# Altium footprint library BGA (1.0mm Pitch, Square1).PcbLib: 28 footprints (part 2 of 2)
Each footprint in its own frame and in the unit in brackets; x right, y up, seen from the top. Pads: shape width x height; smd on the part's side, far side on the other; paste and mask are expansions set on the pad; w line width, h text height; cw(c..) or ccw(c..) is an arc to the next point about the centre after c.
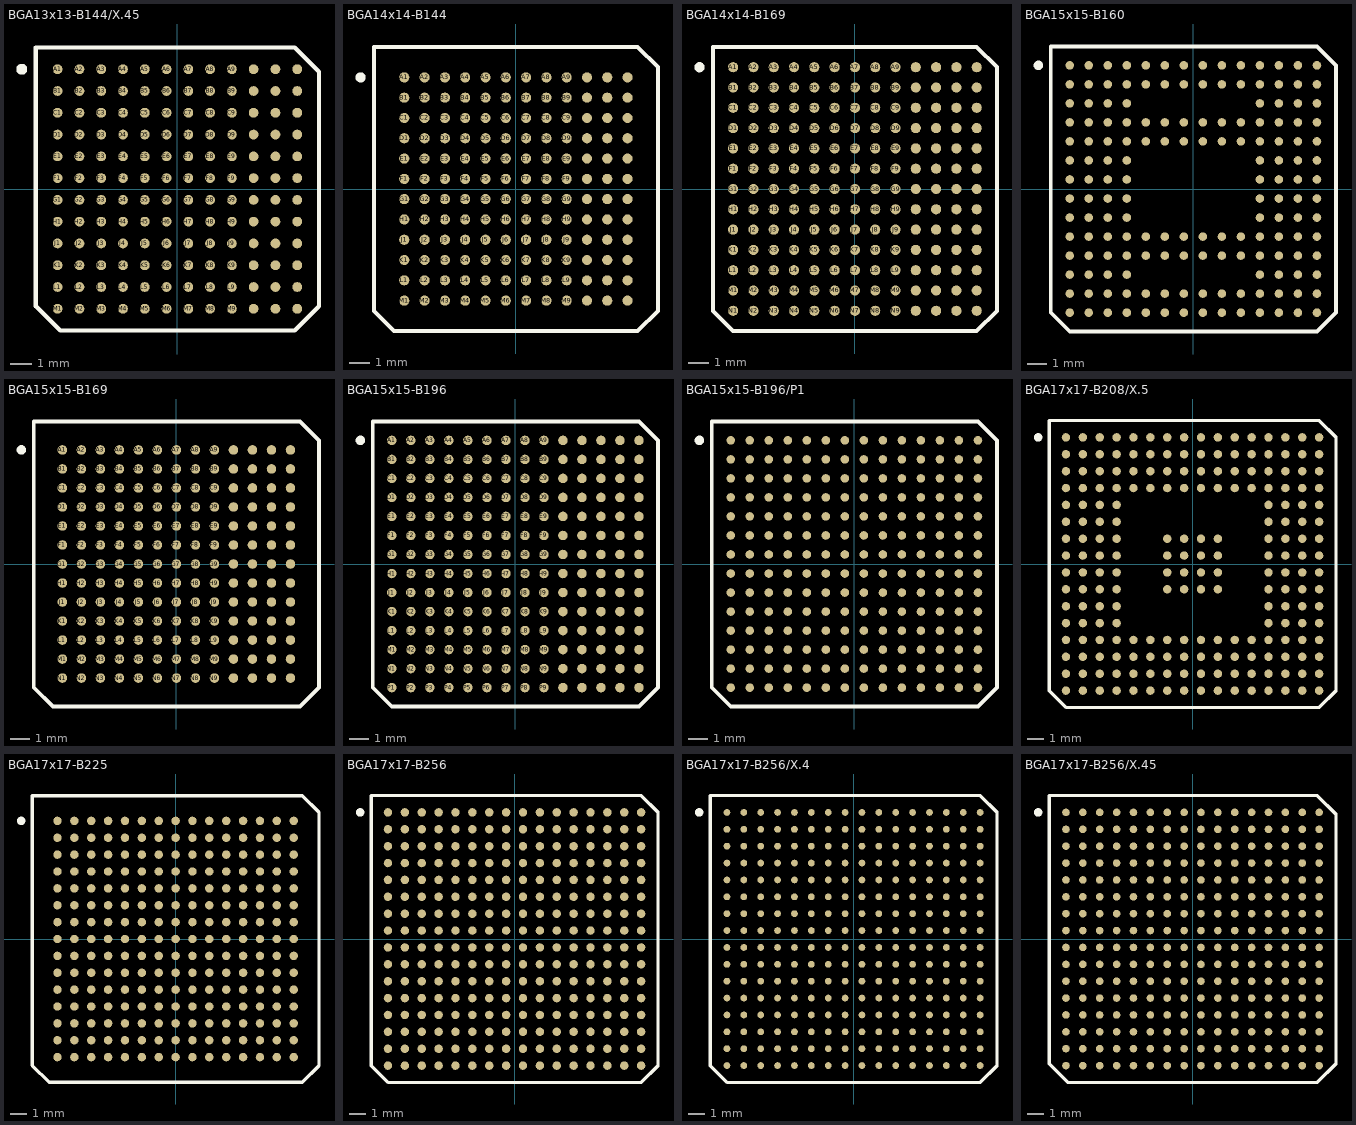
[diagram p1: the footprints below, top view; thin cyan lines are the x and y axes]

## BGA13x13-B144/X.45 [mm] "144-Pin Fine-Pitch Plastic Ball Grid Array (FG)"
height 1.55
pads (144):
  round 0.45 smd: A1(-5.5,5.5) A2(-4.5,5.5) A3(-3.5,5.5) A4(-2.5,5.5) A5(-1.5,5.5) A6(-0.5,5.5) A7(0.5,5.5) A8(1.5,5.5) A9(2.5,5.5) A10(3.5,5.5) A11(4.5,5.5) A12(5.5,5.5) B1(-5.5,4.5) B2(-4.5,4.5) B3(-3.5,4.5) B4(-2.5,4.5) B5(-1.5,4.5) B6(-0.5,4.5) B7(0.5,4.5) B8(1.5,4.5) B9(2.5,4.5) B10(3.5,4.5) B11(4.5,4.5) B12(5.5,4.5) C1(-5.5,3.5) C2(-4.5,3.5) C3(-3.5,3.5) C4(-2.5,3.5) C5(-1.5,3.5) C6(-0.5,3.5) C7(0.5,3.5) C8(1.5,3.5) C9(2.5,3.5) C10(3.5,3.5) C11(4.5,3.5) C12(5.5,3.5) D1(-5.5,2.5) D2(-4.5,2.5) D3(-3.5,2.5) D4(-2.5,2.5) D5(-1.5,2.5) D6(-0.5,2.5) D7(0.5,2.5) D8(1.5,2.5) D9(2.5,2.5) D10(3.5,2.5) D11(4.5,2.5) D12(5.5,2.5) E1(-5.5,1.5) E2(-4.5,1.5) E3(-3.5,1.5) E4(-2.5,1.5) E5(-1.5,1.5) E6(-0.5,1.5) E7(0.5,1.5) E8(1.5,1.5) E9(2.5,1.5) E10(3.5,1.5) E11(4.5,1.5) E12(5.5,1.5) F1(-5.5,0.5) F2(-4.5,0.5) F3(-3.5,0.5) F4(-2.5,0.5) F5(-1.5,0.5) F6(-0.5,0.5) F7(0.5,0.5) F8(1.5,0.5) F9(2.5,0.5) F10(3.5,0.5) F11(4.5,0.5) F12(5.5,0.5) G1(-5.5,-0.5) G2(-4.5,-0.5) G3(-3.5,-0.5) G4(-2.5,-0.5) G5(-1.5,-0.5) G6(-0.5,-0.5) G7(0.5,-0.5) G8(1.5,-0.5) G9(2.5,-0.5) G10(3.5,-0.5) G11(4.5,-0.5) G12(5.5,-0.5) H1(-5.5,-1.5) H2(-4.5,-1.5) H3(-3.5,-1.5) H4(-2.5,-1.5) H5(-1.5,-1.5) H6(-0.5,-1.5) H7(0.5,-1.5) H8(1.5,-1.5) H9(2.5,-1.5) H10(3.5,-1.5) H11(4.5,-1.5) H12(5.5,-1.5) J1(-5.5,-2.5) J2(-4.5,-2.5) J3(-3.5,-2.5) J4(-2.5,-2.5) J5(-1.5,-2.5) J6(-0.5,-2.5) J7(0.5,-2.5) J8(1.5,-2.5) J9(2.5,-2.5) J10(3.5,-2.5) J11(4.5,-2.5) J12(5.5,-2.5) K1(-5.5,-3.5) K2(-4.5,-3.5) K3(-3.5,-3.5) K4(-2.5,-3.5) K5(-1.5,-3.5) K6(-0.5,-3.5) K7(0.5,-3.5) K8(1.5,-3.5) K9(2.5,-3.5) K10(3.5,-3.5) K11(4.5,-3.5) K12(5.5,-3.5) L1(-5.5,-4.5) L2(-4.5,-4.5) L3(-3.5,-4.5) L4(-2.5,-4.5) L5(-1.5,-4.5) L6(-0.5,-4.5) L7(0.5,-4.5) L8(1.5,-4.5) L9(2.5,-4.5) L10(3.5,-4.5) L11(4.5,-4.5) L12(5.5,-4.5) M1(-5.5,-5.5) M2(-4.5,-5.5) M3(-3.5,-5.5) M4(-2.5,-5.5) M5(-1.5,-5.5) M6(-0.5,-5.5) M7(0.5,-5.5) M8(1.5,-5.5) M9(2.5,-5.5) M10(3.5,-5.5) M11(4.5,-5.5) M12(5.5,-5.5)
Top Overlay:
  circle w0.25: c-7.15,5.5 r0.125
  lines w0.2: -6.5,-5.384 -5.384,-6.5 5.384,-6.5 6.5,-5.384 6.5,5.384 5.384,6.5 -6.5,6.5 -6.5,-5.384

## BGA14x14-B144 [mm] "BGA; 144 Balls; Body 14 x 14 mm; Pitch 1 mm"
height 3.5
pads (144):
  round 0.5 smd: A1(-5.5,5.5) A2(-4.5,5.5) A3(-3.5,5.5) A4(-2.5,5.5) A5(-1.5,5.5) A6(-0.5,5.5) A7(0.5,5.5) A8(1.5,5.5) A9(2.5,5.5) A10(3.5,5.5) A11(4.5,5.5) A12(5.5,5.5) B1(-5.5,4.5) B2(-4.5,4.5) B3(-3.5,4.5) B4(-2.5,4.5) B5(-1.5,4.5) B6(-0.5,4.5) B7(0.5,4.5) B8(1.5,4.5) B9(2.5,4.5) B10(3.5,4.5) B11(4.5,4.5) B12(5.5,4.5) C1(-5.5,3.5) C2(-4.5,3.5) C3(-3.5,3.5) C4(-2.5,3.5) C5(-1.5,3.5) C6(-0.5,3.5) C7(0.5,3.5) C8(1.5,3.5) C9(2.5,3.5) C10(3.5,3.5) C11(4.5,3.5) C12(5.5,3.5) D1(-5.5,2.5) D2(-4.5,2.5) D3(-3.5,2.5) D4(-2.5,2.5) D5(-1.5,2.5) D6(-0.5,2.5) D7(0.5,2.5) D8(1.5,2.5) D9(2.5,2.5) D10(3.5,2.5) D11(4.5,2.5) D12(5.5,2.5) E1(-5.5,1.5) E2(-4.5,1.5) E3(-3.5,1.5) E4(-2.5,1.5) E5(-1.5,1.5) E6(-0.5,1.5) E7(0.5,1.5) E8(1.5,1.5) E9(2.5,1.5) E10(3.5,1.5) E11(4.5,1.5) E12(5.5,1.5) F1(-5.5,0.5) F2(-4.5,0.5) F3(-3.5,0.5) F4(-2.5,0.5) F5(-1.5,0.5) F6(-0.5,0.5) F7(0.5,0.5) F8(1.5,0.5) F9(2.5,0.5) F10(3.5,0.5) F11(4.5,0.5) F12(5.5,0.5) G1(-5.5,-0.5) G2(-4.5,-0.5) G3(-3.5,-0.5) G4(-2.5,-0.5) G5(-1.5,-0.5) G6(-0.5,-0.5) G7(0.5,-0.5) G8(1.5,-0.5) G9(2.5,-0.5) G10(3.5,-0.5) G11(4.5,-0.5) G12(5.5,-0.5) H1(-5.5,-1.5) H2(-4.5,-1.5) H3(-3.5,-1.5) H4(-2.5,-1.5) H5(-1.5,-1.5) H6(-0.5,-1.5) H7(0.5,-1.5) H8(1.5,-1.5) H9(2.5,-1.5) H10(3.5,-1.5) H11(4.5,-1.5) H12(5.5,-1.5) J1(-5.5,-2.5) J2(-4.5,-2.5) J3(-3.5,-2.5) J4(-2.5,-2.5) J5(-1.5,-2.5) J6(-0.5,-2.5) J7(0.5,-2.5) J8(1.5,-2.5) J9(2.5,-2.5) J10(3.5,-2.5) J11(4.5,-2.5) J12(5.5,-2.5) K1(-5.5,-3.5) K2(-4.5,-3.5) K3(-3.5,-3.5) K4(-2.5,-3.5) K5(-1.5,-3.5) K6(-0.5,-3.5) K7(0.5,-3.5) K8(1.5,-3.5) K9(2.5,-3.5) K10(3.5,-3.5) K11(4.5,-3.5) K12(5.5,-3.5) L1(-5.5,-4.5) L2(-4.5,-4.5) L3(-3.5,-4.5) L4(-2.5,-4.5) L5(-1.5,-4.5) L6(-0.5,-4.5) L7(0.5,-4.5) L8(1.5,-4.5) L9(2.5,-4.5) L10(3.5,-4.5) L11(4.5,-4.5) L12(5.5,-4.5) M1(-5.5,-5.5) M2(-4.5,-5.5) M3(-3.5,-5.5) M4(-2.5,-5.5) M5(-1.5,-5.5) M6(-0.5,-5.5) M7(0.5,-5.5) M8(1.5,-5.5) M9(2.5,-5.5) M10(3.5,-5.5) M11(4.5,-5.5) M12(5.5,-5.5)
Top Overlay:
  circle w0.25: c-7.655,5.5 r0.125
  lines w0.2: -7,-6 -6,-7 6,-7 7,-6 7,6 6,7 -7,7 -7,-6

## BGA14x14-B169 [mm] "BGA; 169 Balls; Body 14 x 14 mm; Pitch 1 mm"
height 3.5
pads (169):
  round 0.5 smd: A1(-6,6) A2(-5,6) A3(-4,6) A4(-3,6) A5(-2,6) A6(-1,6) A7(0,6) A8(1,6) A9(2,6) A10(3,6) A11(4,6) A12(5,6) A13(6,6) B1(-6,5) B2(-5,5) B3(-4,5) B4(-3,5) B5(-2,5) B6(-1,5) B7(0,5) B8(1,5) B9(2,5) B10(3,5) B11(4,5) B12(5,5) B13(6,5) C1(-6,4) C2(-5,4) C3(-4,4) C4(-3,4) C5(-2,4) C6(-1,4) C7(0,4) C8(1,4) C9(2,4) C10(3,4) C11(4,4) C12(5,4) C13(6,4) D1(-6,3) D2(-5,3) D3(-4,3) D4(-3,3) D5(-2,3) D6(-1,3) D7(0,3) D8(1,3) D9(2,3) D10(3,3) D11(4,3) D12(5,3) D13(6,3) E1(-6,2) E2(-5,2) E3(-4,2) E4(-3,2) E5(-2,2) E6(-1,2) E7(0,2) E8(1,2) E9(2,2) E10(3,2) E11(4,2) E12(5,2) E13(6,2) F1(-6,1) F2(-5,1) F3(-4,1) F4(-3,1) F5(-2,1) F6(-1,1) F7(0,1) F8(1,1) F9(2,1) F10(3,1) F11(4,1) F12(5,1) F13(6,1) G1(-6,0) G2(-5,0) G3(-4,0) G4(-3,0) G5(-2,0) G6(-1,0) G7(0,0) G8(1,0) G9(2,0) G10(3,0) G11(4,0) G12(5,0) G13(6,0) H1(-6,-1) H2(-5,-1) H3(-4,-1) H4(-3,-1) H5(-2,-1) H6(-1,-1) H7(0,-1) H8(1,-1) H9(2,-1) H10(3,-1) H11(4,-1) H12(5,-1) H13(6,-1) J1(-6,-2) J2(-5,-2) J3(-4,-2) J4(-3,-2) J5(-2,-2) J6(-1,-2) J7(0,-2) J8(1,-2) J9(2,-2) J10(3,-2) J11(4,-2) J12(5,-2) J13(6,-2) K1(-6,-3) K2(-5,-3) K3(-4,-3) K4(-3,-3) K5(-2,-3) K6(-1,-3) K7(0,-3) K8(1,-3) K9(2,-3) K10(3,-3) K11(4,-3) K12(5,-3) K13(6,-3) L1(-6,-4) L2(-5,-4) L3(-4,-4) L4(-3,-4) L5(-2,-4) L6(-1,-4) L7(0,-4) L8(1,-4) L9(2,-4) L10(3,-4) L11(4,-4) L12(5,-4) L13(6,-4) M1(-6,-5) M2(-5,-5) M3(-4,-5) M4(-3,-5) M5(-2,-5) M6(-1,-5) M7(0,-5) M8(1,-5) M9(2,-5) M10(3,-5) M11(4,-5) M12(5,-5) M13(6,-5) N1(-6,-6) N2(-5,-6) N3(-4,-6) N4(-3,-6) N5(-2,-6) N6(-1,-6) N7(0,-6) N8(1,-6) N9(2,-6) N10(3,-6) N11(4,-6) N12(5,-6) N13(6,-6)
Top Overlay:
  circle w0.25: c-7.655,6 r0.125
  lines w0.2: -7,-6 -7,7 6,7 7,6 7,-6 6,-7 -6,-7 -7,-6

## BGA15x15-B160 [mm] "MAP-BGA; 160 Balls; Body 15 x 15 mm; Pitch 1 mm"
height 1.75
pads (160):
  round 0.45 smd: A1(-6.5,6.5) A2(-5.5,6.5) A3(-4.5,6.5) A4(-3.5,6.5) A5(-2.5,6.5) A6(-1.5,6.5) A7(-0.5,6.5) A8(0.5,6.5) A9(1.5,6.5) A10(2.5,6.5) A11(3.5,6.5) A12(4.5,6.5) A13(5.5,6.5) A14(6.5,6.5) B1(-6.5,5.5) B2(-5.5,5.5) B3(-4.5,5.5) B4(-3.5,5.5) B5(-2.5,5.5) B6(-1.5,5.5) B7(-0.5,5.5) B8(0.5,5.5) B9(1.5,5.5) B10(2.5,5.5) B11(3.5,5.5) B12(4.5,5.5) B13(5.5,5.5) B14(6.5,5.5) C1(-6.5,4.5) C2(-5.5,4.5) C3(-4.5,4.5) C4(-3.5,4.5) C11(3.5,4.5) C12(4.5,4.5) C13(5.5,4.5) C14(6.5,4.5) D1(-6.5,3.5) D2(-5.5,3.5) D3(-4.5,3.5) D4(-3.5,3.5) D5(-2.5,3.5) D6(-1.5,3.5) D7(-0.5,3.5) D8(0.5,3.5) D9(1.5,3.5) D10(2.5,3.5) D11(3.5,3.5) D12(4.5,3.5) D13(5.5,3.5) D14(6.5,3.5) E1(-6.5,2.5) E2(-5.5,2.5) E3(-4.5,2.5) E4(-3.5,2.5) E5(-2.5,2.5) E6(-1.5,2.5) E7(-0.5,2.5) E8(0.5,2.5) E9(1.5,2.5) E10(2.5,2.5) E11(3.5,2.5) E12(4.5,2.5) E13(5.5,2.5) E14(6.5,2.5) F1(-6.5,1.5) F2(-5.5,1.5) F3(-4.5,1.5) F4(-3.5,1.5) F11(3.5,1.5) F12(4.5,1.5) F13(5.5,1.5) F14(6.5,1.5) G1(-6.5,0.5) G2(-5.5,0.5) G3(-4.5,0.5) G4(-3.5,0.5) G11(3.5,0.5) G12(4.5,0.5) G13(5.5,0.5) G14(6.5,0.5) H1(-6.5,-0.5) H2(-5.5,-0.5) H3(-4.5,-0.5) H4(-3.5,-0.5) H11(3.5,-0.5) H12(4.5,-0.5) H13(5.5,-0.5) H14(6.5,-0.5) J1(-6.5,-1.5) J2(-5.5,-1.5) J3(-4.5,-1.5) J4(-3.5,-1.5) J11(3.5,-1.5) J12(4.5,-1.5) J13(5.5,-1.5) J14(6.5,-1.5) K1(-6.5,-2.5) K2(-5.5,-2.5) K3(-4.5,-2.5) K4(-3.5,-2.5) K5(-2.5,-2.5) K6(-1.5,-2.5) K7(-0.5,-2.5) K8(0.5,-2.5) K9(1.5,-2.5) K10(2.5,-2.5) K11(3.5,-2.5) K12(4.5,-2.5) K13(5.5,-2.5) K14(6.5,-2.5) L1(-6.5,-3.5) L2(-5.5,-3.5) L3(-4.5,-3.5) L4(-3.5,-3.5) L5(-2.5,-3.5) L6(-1.5,-3.5) L7(-0.5,-3.5) L8(0.5,-3.5) L9(1.5,-3.5) L10(2.5,-3.5) L11(3.5,-3.5) L12(4.5,-3.5) L13(5.5,-3.5) L14(6.5,-3.5) M1(-6.5,-4.5) M2(-5.5,-4.5) M3(-4.5,-4.5) M4(-3.5,-4.5) M11(3.5,-4.5) M12(4.5,-4.5) M13(5.5,-4.5) M14(6.5,-4.5) N1(-6.5,-5.5) N2(-5.5,-5.5) N3(-4.5,-5.5) N4(-3.5,-5.5) N5(-2.5,-5.5) N6(-1.5,-5.5) N7(-0.5,-5.5) N8(0.5,-5.5) N9(1.5,-5.5) N10(2.5,-5.5) N11(3.5,-5.5) N12(4.5,-5.5) N13(5.5,-5.5) N14(6.5,-5.5) P1(-6.5,-6.5) P2(-5.5,-6.5) P3(-4.5,-6.5) P4(-3.5,-6.5) P5(-2.5,-6.5) P6(-1.5,-6.5) P7(-0.5,-6.5) P8(0.5,-6.5) P9(1.5,-6.5) P10(2.5,-6.5) P11(3.5,-6.5) P12(4.5,-6.5) P13(5.5,-6.5) P14(6.5,-6.5)
Top Overlay:
  circle w0.25: c-8.15,6.5 r0.125
  lines w0.2: -7.5,-6.5 -7.5,7.5 6.5,7.5 7.5,6.5 7.5,-6.5 6.5,-7.5 -6.5,-7.5 -7.5,-6.5

## BGA15x15-B169 [mm] "BGA; 169 Balls; Body 15 x 15 mm; Pitch 1 mm"
height 3.5
pads (169):
  round 0.5 smd: A1(-6,6) A2(-5,6) A3(-4,6) A4(-3,6) A5(-2,6) A6(-1,6) A7(0,6) A8(1,6) A9(2,6) A10(3,6) A11(4,6) A12(5,6) A13(6,6) B1(-6,5) B2(-5,5) B3(-4,5) B4(-3,5) B5(-2,5) B6(-1,5) B7(0,5) B8(1,5) B9(2,5) B10(3,5) B11(4,5) B12(5,5) B13(6,5) C1(-6,4) C2(-5,4) C3(-4,4) C4(-3,4) C5(-2,4) C6(-1,4) C7(0,4) C8(1,4) C9(2,4) C10(3,4) C11(4,4) C12(5,4) C13(6,4) D1(-6,3) D2(-5,3) D3(-4,3) D4(-3,3) D5(-2,3) D6(-1,3) D7(0,3) D8(1,3) D9(2,3) D10(3,3) D11(4,3) D12(5,3) D13(6,3) E1(-6,2) E2(-5,2) E3(-4,2) E4(-3,2) E5(-2,2) E6(-1,2) E7(0,2) E8(1,2) E9(2,2) E10(3,2) E11(4,2) E12(5,2) E13(6,2) F1(-6,1) F2(-5,1) F3(-4,1) F4(-3,1) F5(-2,1) F6(-1,1) F7(0,1) F8(1,1) F9(2,1) F10(3,1) F11(4,1) F12(5,1) F13(6,1) G1(-6,0) G2(-5,0) G3(-4,0) G4(-3,0) G5(-2,0) G6(-1,0) G7(0,0) G8(1,0) G9(2,0) G10(3,0) G11(4,0) G12(5,0) G13(6,0) H1(-6,-1) H2(-5,-1) H3(-4,-1) H4(-3,-1) H5(-2,-1) H6(-1,-1) H7(0,-1) H8(1,-1) H9(2,-1) H10(3,-1) H11(4,-1) H12(5,-1) H13(6,-1) J1(-6,-2) J2(-5,-2) J3(-4,-2) J4(-3,-2) J5(-2,-2) J6(-1,-2) J7(0,-2) J8(1,-2) J9(2,-2) J10(3,-2) J11(4,-2) J12(5,-2) J13(6,-2) K1(-6,-3) K2(-5,-3) K3(-4,-3) K4(-3,-3) K5(-2,-3) K6(-1,-3) K7(0,-3) K8(1,-3) K9(2,-3) K10(3,-3) K11(4,-3) K12(5,-3) K13(6,-3) L1(-6,-4) L2(-5,-4) L3(-4,-4) L4(-3,-4) L5(-2,-4) L6(-1,-4) L7(0,-4) L8(1,-4) L9(2,-4) L10(3,-4) L11(4,-4) L12(5,-4) L13(6,-4) M1(-6,-5) M2(-5,-5) M3(-4,-5) M4(-3,-5) M5(-2,-5) M6(-1,-5) M7(0,-5) M8(1,-5) M9(2,-5) M10(3,-5) M11(4,-5) M12(5,-5) M13(6,-5) N1(-6,-6) N2(-5,-6) N3(-4,-6) N4(-3,-6) N5(-2,-6) N6(-1,-6) N7(0,-6) N8(1,-6) N9(2,-6) N10(3,-6) N11(4,-6) N12(5,-6) N13(6,-6)
Top Overlay:
  circle w0.25: c-8.155,6 r0.125
  lines w0.2: -7.5,-6.5 -7.5,7.5 6.5,7.5 7.5,6.5 7.5,-6.5 6.5,-7.5 -6.5,-7.5 -7.5,-6.5

## BGA15x15-B196 [mm] "BGA; 196 Balls; Body 15 x 15 mm; Pitch 1 mm"
height 1.9
pads (196):
  round 0.5 smd: A1(-6.5,6.5) A2(-5.5,6.5) A3(-4.5,6.5) A4(-3.5,6.5) A5(-2.5,6.5) A6(-1.5,6.5) A7(-0.5,6.5) A8(0.5,6.5) A9(1.5,6.5) A10(2.5,6.5) A11(3.5,6.5) A12(4.5,6.5) A13(5.5,6.5) A14(6.5,6.5) B1(-6.5,5.5) B2(-5.5,5.5) B3(-4.5,5.5) B4(-3.5,5.5) B5(-2.5,5.5) B6(-1.5,5.5) B7(-0.5,5.5) B8(0.5,5.5) B9(1.5,5.5) B10(2.5,5.5) B11(3.5,5.5) B12(4.5,5.5) B13(5.5,5.5) B14(6.5,5.5) C1(-6.5,4.5) C2(-5.5,4.5) C3(-4.5,4.5) C4(-3.5,4.5) C5(-2.5,4.5) C6(-1.5,4.5) C7(-0.5,4.5) C8(0.5,4.5) C9(1.5,4.5) C10(2.5,4.5) C11(3.5,4.5) C12(4.5,4.5) C13(5.5,4.5) C14(6.5,4.5) D1(-6.5,3.5) D2(-5.5,3.5) D3(-4.5,3.5) D4(-3.5,3.5) D5(-2.5,3.5) D6(-1.5,3.5) D7(-0.5,3.5) D8(0.5,3.5) D9(1.5,3.5) D10(2.5,3.5) D11(3.5,3.5) D12(4.5,3.5) D13(5.5,3.5) D14(6.5,3.5) E1(-6.5,2.5) E2(-5.5,2.5) E3(-4.5,2.5) E4(-3.5,2.5) E5(-2.5,2.5) E6(-1.5,2.5) E7(-0.5,2.5) E8(0.5,2.5) E9(1.5,2.5) E10(2.5,2.5) E11(3.5,2.5) E12(4.5,2.5) E13(5.5,2.5) E14(6.5,2.5) F1(-6.5,1.5) F2(-5.5,1.5) F3(-4.5,1.5) F4(-3.5,1.5) F5(-2.5,1.5) F6(-1.5,1.5) F7(-0.5,1.5) F8(0.5,1.5) F9(1.5,1.5) F10(2.5,1.5) F11(3.5,1.5) F12(4.5,1.5) F13(5.5,1.5) F14(6.5,1.5) G1(-6.5,0.5) G2(-5.5,0.5) G3(-4.5,0.5) G4(-3.5,0.5) G5(-2.5,0.5) G6(-1.5,0.5) G7(-0.5,0.5) G8(0.5,0.5) G9(1.5,0.5) G10(2.5,0.5) G11(3.5,0.5) G12(4.5,0.5) G13(5.5,0.5) G14(6.5,0.5) H1(-6.5,-0.5) H2(-5.5,-0.5) H3(-4.5,-0.5) H4(-3.5,-0.5) H5(-2.5,-0.5) H6(-1.5,-0.5) H7(-0.5,-0.5) H8(0.5,-0.5) H9(1.5,-0.5) H10(2.5,-0.5) H11(3.5,-0.5) H12(4.5,-0.5) H13(5.5,-0.5) H14(6.5,-0.5) J1(-6.5,-1.5) J2(-5.5,-1.5) J3(-4.5,-1.5) J4(-3.5,-1.5) J5(-2.5,-1.5) J6(-1.5,-1.5) J7(-0.5,-1.5) J8(0.5,-1.5) J9(1.5,-1.5) J10(2.5,-1.5) J11(3.5,-1.5) J12(4.5,-1.5) J13(5.5,-1.5) J14(6.5,-1.5) K1(-6.5,-2.5) K2(-5.5,-2.5) K3(-4.5,-2.5) K4(-3.5,-2.5) K5(-2.5,-2.5) K6(-1.5,-2.5) K7(-0.5,-2.5) K8(0.5,-2.5) K9(1.5,-2.5) K10(2.5,-2.5) K11(3.5,-2.5) K12(4.5,-2.5) K13(5.5,-2.5) K14(6.5,-2.5) L1(-6.5,-3.5) L2(-5.5,-3.5) L3(-4.5,-3.5) L4(-3.5,-3.5) L5(-2.5,-3.5) L6(-1.5,-3.5) L7(-0.5,-3.5) L8(0.5,-3.5) L9(1.5,-3.5) L10(2.5,-3.5) L11(3.5,-3.5) L12(4.5,-3.5) L13(5.5,-3.5) L14(6.5,-3.5) M1(-6.5,-4.5) M2(-5.5,-4.5) M3(-4.5,-4.5) M4(-3.5,-4.5) M5(-2.5,-4.5) M6(-1.5,-4.5) M7(-0.5,-4.5) M8(0.5,-4.5) M9(1.5,-4.5) M10(2.5,-4.5) M11(3.5,-4.5) M12(4.5,-4.5) M13(5.5,-4.5) M14(6.5,-4.5) N1(-6.5,-5.5) N2(-5.5,-5.5) N3(-4.5,-5.5) N4(-3.5,-5.5) N5(-2.5,-5.5) N6(-1.5,-5.5) N7(-0.5,-5.5) N8(0.5,-5.5) N9(1.5,-5.5) N10(2.5,-5.5) N11(3.5,-5.5) N12(4.5,-5.5) N13(5.5,-5.5) N14(6.5,-5.5) P1(-6.5,-6.5) P2(-5.5,-6.5) P3(-4.5,-6.5) P4(-3.5,-6.5) P5(-2.5,-6.5) P6(-1.5,-6.5) P7(-0.5,-6.5) P8(0.5,-6.5) P9(1.5,-6.5) P10(2.5,-6.5) P11(3.5,-6.5) P12(4.5,-6.5) P13(5.5,-6.5) P14(6.5,-6.5)
Top Overlay:
  circle w0.25: c-8.15,6.5 r0.125
  lines w0.2: -7.5,-6.5 -6.5,-7.5 6.5,-7.5 7.5,-6.5 7.5,6.5 6.5,7.5 -7.5,7.5 -7.5,-6.5

## BGA15x15-B196/P1 [mm] "MAP-BGA; 196 Balls; Body 15 x 15 mm; Pitch 1 mm"
height 1.6
pads (196):
  round 0.45 smd: A1(-6.5,6.5) A2(-5.5,6.5) A3(-4.5,6.5) A4(-3.5,6.5) A5(-2.5,6.5) A6(-1.5,6.5) A7(-0.5,6.5) A8(0.5,6.5) A9(1.5,6.5) A10(2.5,6.5) A11(3.5,6.5) A12(4.5,6.5) A13(5.5,6.5) A14(6.5,6.5) B1(-6.5,5.5) B2(-5.5,5.5) B3(-4.5,5.5) B4(-3.5,5.5) B5(-2.5,5.5) B6(-1.5,5.5) B7(-0.5,5.5) B8(0.5,5.5) B9(1.5,5.5) B10(2.5,5.5) B11(3.5,5.5) B12(4.5,5.5) B13(5.5,5.5) B14(6.5,5.5) C1(-6.5,4.5) C2(-5.5,4.5) C3(-4.5,4.5) C4(-3.5,4.5) C5(-2.5,4.5) C6(-1.5,4.5) C7(-0.5,4.5) C8(0.5,4.5) C9(1.5,4.5) C10(2.5,4.5) C11(3.5,4.5) C12(4.5,4.5) C13(5.5,4.5) C14(6.5,4.5) D1(-6.5,3.5) D2(-5.5,3.5) D3(-4.5,3.5) D4(-3.5,3.5) D5(-2.5,3.5) D6(-1.5,3.5) D7(-0.5,3.5) D8(0.5,3.5) D9(1.5,3.5) D10(2.5,3.5) D11(3.5,3.5) D12(4.5,3.5) D13(5.5,3.5) D14(6.5,3.5) E1(-6.5,2.5) E2(-5.5,2.5) E3(-4.5,2.5) E4(-3.5,2.5) E5(-2.5,2.5) E6(-1.5,2.5) E7(-0.5,2.5) E8(0.5,2.5) E9(1.5,2.5) E10(2.5,2.5) E11(3.5,2.5) E12(4.5,2.5) E13(5.5,2.5) E14(6.5,2.5) F1(-6.5,1.5) F2(-5.5,1.5) F3(-4.5,1.5) F4(-3.5,1.5) F5(-2.5,1.5) F6(-1.5,1.5) F7(-0.5,1.5) F8(0.5,1.5) F9(1.5,1.5) F10(2.5,1.5) F11(3.5,1.5) F12(4.5,1.5) F13(5.5,1.5) F14(6.5,1.5) G1(-6.5,0.5) G2(-5.5,0.5) G3(-4.5,0.5) G4(-3.5,0.5) G5(-2.5,0.5) G6(-1.5,0.5) G7(-0.5,0.5) G8(0.5,0.5) G9(1.5,0.5) G10(2.5,0.5) G11(3.5,0.5) G12(4.5,0.5) G13(5.5,0.5) G14(6.5,0.5) H1(-6.5,-0.5) H2(-5.5,-0.5) H3(-4.5,-0.5) H4(-3.5,-0.5) H5(-2.5,-0.5) H6(-1.5,-0.5) H7(-0.5,-0.5) H8(0.5,-0.5) H9(1.5,-0.5) H10(2.5,-0.5) H11(3.5,-0.5) H12(4.5,-0.5) H13(5.5,-0.5) H14(6.5,-0.5) J1(-6.5,-1.5) J2(-5.5,-1.5) J3(-4.5,-1.5) J4(-3.5,-1.5) J5(-2.5,-1.5) J6(-1.5,-1.5) J7(-0.5,-1.5) J8(0.5,-1.5) J9(1.5,-1.5) J10(2.5,-1.5) J11(3.5,-1.5) J12(4.5,-1.5) J13(5.5,-1.5) J14(6.5,-1.5) K1(-6.5,-2.5) K2(-5.5,-2.5) K3(-4.5,-2.5) K4(-3.5,-2.5) K5(-2.5,-2.5) K6(-1.5,-2.5) K7(-0.5,-2.5) K8(0.5,-2.5) K9(1.5,-2.5) K10(2.5,-2.5) K11(3.5,-2.5) K12(4.5,-2.5) K13(5.5,-2.5) K14(6.5,-2.5) L1(-6.5,-3.5) L2(-5.5,-3.5) L3(-4.5,-3.5) L4(-3.5,-3.5) L5(-2.5,-3.5) L6(-1.5,-3.5) L7(-0.5,-3.5) L8(0.5,-3.5) L9(1.5,-3.5) L10(2.5,-3.5) L11(3.5,-3.5) L12(4.5,-3.5) L13(5.5,-3.5) L14(6.5,-3.5) M1(-6.5,-4.5) M2(-5.5,-4.5) M3(-4.5,-4.5) M4(-3.5,-4.5) M5(-2.5,-4.5) M6(-1.5,-4.5) M7(-0.5,-4.5) M8(0.5,-4.5) M9(1.5,-4.5) M10(2.5,-4.5) M11(3.5,-4.5) M12(4.5,-4.5) M13(5.5,-4.5) M14(6.5,-4.5) N1(-6.5,-5.5) N2(-5.5,-5.5) N3(-4.5,-5.5) N4(-3.5,-5.5) N5(-2.5,-5.5) N6(-1.5,-5.5) N7(-0.5,-5.5) N8(0.5,-5.5) N9(1.5,-5.5) N10(2.5,-5.5) N11(3.5,-5.5) N12(4.5,-5.5) N13(5.5,-5.5) N14(6.5,-5.5) P1(-6.5,-6.5) P2(-5.5,-6.5) P3(-4.5,-6.5) P4(-3.5,-6.5) P5(-2.5,-6.5) P6(-1.5,-6.5) P7(-0.5,-6.5) P8(0.5,-6.5) P9(1.5,-6.5) P10(2.5,-6.5) P11(3.5,-6.5) P12(4.5,-6.5) P13(5.5,-6.5) P14(6.5,-6.5)
Top Overlay:
  circle w0.25: c-8.15,6.5 r0.125
  lines w0.2: -7.5,-6.5 -7.5,7.5 6.5,7.5 7.5,6.5 7.5,-6.5 6.5,-7.5 -6.5,-7.5 -7.5,-6.5

## BGA17x17-B208/X.5 [mm] "BGA; 208 Balls; Body 17 x 17 mm; Pitch 1 mm"
height 2.1
pads (208):
  round 0.5 smd: A1(-7.5,7.5) A2(-6.5,7.5) A3(-5.5,7.5) A4(-4.5,7.5) A5(-3.5,7.5) A6(-2.5,7.5) A7(-1.5,7.5) A8(-0.5,7.5) A9(0.5,7.5) A10(1.5,7.5) A11(2.5,7.5) A12(3.5,7.5) A13(4.5,7.5) A14(5.5,7.5) A15(6.5,7.5) A16(7.5,7.5) B1(-7.5,6.5) B2(-6.5,6.5) B3(-5.5,6.5) B4(-4.5,6.5) B5(-3.5,6.5) B6(-2.5,6.5) B7(-1.5,6.5) B8(-0.5,6.5) B9(0.5,6.5) B10(1.5,6.5) B11(2.5,6.5) B12(3.5,6.5) B13(4.5,6.5) B14(5.5,6.5) B15(6.5,6.5) B16(7.5,6.5) C1(-7.5,5.5) C2(-6.5,5.5) C3(-5.5,5.5) C4(-4.5,5.5) C5(-3.5,5.5) C6(-2.5,5.5) C7(-1.5,5.5) C8(-0.5,5.5) C9(0.5,5.5) C10(1.5,5.5) C11(2.5,5.5) C12(3.5,5.5) C13(4.5,5.5) C14(5.5,5.5) C15(6.5,5.5) C16(7.5,5.5) D1(-7.5,4.5) D2(-6.5,4.5) D3(-5.5,4.5) D4(-4.5,4.5) D5(-3.5,4.5) D6(-2.5,4.5) D7(-1.5,4.5) D8(-0.5,4.5) D9(0.5,4.5) D10(1.5,4.5) D11(2.5,4.5) D12(3.5,4.5) D13(4.5,4.5) D14(5.5,4.5) D15(6.5,4.5) D16(7.5,4.5) E1(-7.5,3.5) E2(-6.5,3.5) E3(-5.5,3.5) E4(-4.5,3.5) E13(4.5,3.5) E14(5.5,3.5) E15(6.5,3.5) E16(7.5,3.5) F1(-7.5,2.5) F2(-6.5,2.5) F3(-5.5,2.5) F4(-4.5,2.5) F13(4.5,2.5) F14(5.5,2.5) F15(6.5,2.5) F16(7.5,2.5) G1(-7.5,1.5) G2(-6.5,1.5) G3(-5.5,1.5) G4(-4.5,1.5) G7(-1.5,1.5) G8(-0.5,1.5) G9(0.5,1.5) G10(1.5,1.5) G13(4.5,1.5) G14(5.5,1.5) G15(6.5,1.5) G16(7.5,1.5) H1(-7.5,0.5) H2(-6.5,0.5) H3(-5.5,0.5) H4(-4.5,0.5) H7(-1.5,0.5) H8(-0.5,0.5) H9(0.5,0.5) H10(1.5,0.5) H13(4.5,0.5) H14(5.5,0.5) H15(6.5,0.5) H16(7.5,0.5) J1(-7.5,-0.5) J2(-6.5,-0.5) J3(-5.5,-0.5) J4(-4.5,-0.5) J7(-1.5,-0.5) J8(-0.5,-0.5) J9(0.5,-0.5) J10(1.5,-0.5) J13(4.5,-0.5) J14(5.5,-0.5) J15(6.5,-0.5) J16(7.5,-0.5) K1(-7.5,-1.5) K2(-6.5,-1.5) K3(-5.5,-1.5) K4(-4.5,-1.5) K7(-1.5,-1.5) K8(-0.5,-1.5) K9(0.5,-1.5) K10(1.5,-1.5) K13(4.5,-1.5) K14(5.5,-1.5) K15(6.5,-1.5) K16(7.5,-1.5) L1(-7.5,-2.5) L2(-6.5,-2.5) L3(-5.5,-2.5) L4(-4.5,-2.5) L13(4.5,-2.5) L14(5.5,-2.5) L15(6.5,-2.5) L16(7.5,-2.5) M1(-7.5,-3.5) M2(-6.5,-3.5) M3(-5.5,-3.5) M4(-4.5,-3.5) M13(4.5,-3.5) M14(5.5,-3.5) M15(6.5,-3.5) M16(7.5,-3.5) N1(-7.5,-4.5) N2(-6.5,-4.5) N3(-5.5,-4.5) N4(-4.5,-4.5) N5(-3.5,-4.5) N6(-2.5,-4.5) N7(-1.5,-4.5) N8(-0.5,-4.5) N9(0.5,-4.5) N10(1.5,-4.5) N11(2.5,-4.5) N12(3.5,-4.5) N13(4.5,-4.5) N14(5.5,-4.5) N15(6.5,-4.5) N16(7.5,-4.5) P1(-7.5,-5.5) P2(-6.5,-5.5) P3(-5.5,-5.5) P4(-4.5,-5.5) P5(-3.5,-5.5) P6(-2.5,-5.5) P7(-1.5,-5.5) P8(-0.5,-5.5) P9(0.5,-5.5) P10(1.5,-5.5) P11(2.5,-5.5) P12(3.5,-5.5) P13(4.5,-5.5) P14(5.5,-5.5) P15(6.5,-5.5) P16(7.5,-5.5) R1(-7.5,-6.5) R2(-6.5,-6.5) R3(-5.5,-6.5) R4(-4.5,-6.5) R5(-3.5,-6.5) R6(-2.5,-6.5) R7(-1.5,-6.5) R8(-0.5,-6.5) R9(0.5,-6.5) R10(1.5,-6.5) R11(2.5,-6.5) R12(3.5,-6.5) R13(4.5,-6.5) R14(5.5,-6.5) R15(6.5,-6.5) R16(7.5,-6.5) T1(-7.5,-7.5) T2(-6.5,-7.5) T3(-5.5,-7.5) T4(-4.5,-7.5) T5(-3.5,-7.5) T6(-2.5,-7.5) T7(-1.5,-7.5) T8(-0.5,-7.5) T9(0.5,-7.5) T10(1.5,-7.5) T11(2.5,-7.5) T12(3.5,-7.5) T13(4.5,-7.5) T14(5.5,-7.5) T15(6.5,-7.5) T16(7.5,-7.5)
Top Overlay:
  circle w0.25: c-9.15,7.5 r0.125
  lines w0.2: -8.5,-7.5 -8.5,8.5 7.5,8.5 8.5,7.5 8.5,-7.5 7.5,-8.5 -7.5,-8.5 -8.5,-7.5

## BGA17x17-B225 [mm] "BGA; 225 Balls; Body 17 x 17 mm; Pitch 1 mm"
height 3.5
pads (225):
  round 0.5 smd: A1(-7,7) A2(-6,7) A3(-5,7) A4(-4,7) A5(-3,7) A6(-2,7) A7(-1,7) A8(0,7) A9(1,7) A10(2,7) A11(3,7) A12(4,7) A13(5,7) A14(6,7) A15(7,7) B1(-7,6) B2(-6,6) B3(-5,6) B4(-4,6) B5(-3,6) B6(-2,6) B7(-1,6) B8(0,6) B9(1,6) B10(2,6) B11(3,6) B12(4,6) B13(5,6) B14(6,6) B15(7,6) C1(-7,5) C2(-6,5) C3(-5,5) C4(-4,5) C5(-3,5) C6(-2,5) C7(-1,5) C8(0,5) C9(1,5) C10(2,5) C11(3,5) C12(4,5) C13(5,5) C14(6,5) C15(7,5) D1(-7,4) D2(-6,4) D3(-5,4) D4(-4,4) D5(-3,4) D6(-2,4) D7(-1,4) D8(0,4) D9(1,4) D10(2,4) D11(3,4) D12(4,4) D13(5,4) D14(6,4) D15(7,4) E1(-7,3) E2(-6,3) E3(-5,3) E4(-4,3) E5(-3,3) E6(-2,3) E7(-1,3) E8(0,3) E9(1,3) E10(2,3) E11(3,3) E12(4,3) E13(5,3) E14(6,3) E15(7,3) F1(-7,2) F2(-6,2) F3(-5,2) F4(-4,2) F5(-3,2) F6(-2,2) F7(-1,2) F8(0,2) F9(1,2) F10(2,2) F11(3,2) F12(4,2) F13(5,2) F14(6,2) F15(7,2) G1(-7,1) G2(-6,1) G3(-5,1) G4(-4,1) G5(-3,1) G6(-2,1) G7(-1,1) G8(0,1) G9(1,1) G10(2,1) G11(3,1) G12(4,1) G13(5,1) G14(6,1) G15(7,1) H1(-7,0) H2(-6,0) H3(-5,0) H4(-4,0) H5(-3,0) H6(-2,0) H7(-1,0) H8(0,0) H9(1,0) H10(2,0) H11(3,0) H12(4,0) H13(5,0) H14(6,0) H15(7,0) J1(-7,-1) J2(-6,-1) J3(-5,-1) J4(-4,-1) J5(-3,-1) J6(-2,-1) J7(-1,-1) J8(0,-1) J9(1,-1) J10(2,-1) J11(3,-1) J12(4,-1) J13(5,-1) J14(6,-1) J15(7,-1) K1(-7,-2) K2(-6,-2) K3(-5,-2) K4(-4,-2) K5(-3,-2) K6(-2,-2) K7(-1,-2) K8(0,-2) K9(1,-2) K10(2,-2) K11(3,-2) K12(4,-2) K13(5,-2) K14(6,-2) K15(7,-2) L1(-7,-3) L2(-6,-3) L3(-5,-3) L4(-4,-3) L5(-3,-3) L6(-2,-3) L7(-1,-3) L8(0,-3) L9(1,-3) L10(2,-3) L11(3,-3) L12(4,-3) L13(5,-3) L14(6,-3) L15(7,-3) M1(-7,-4) M2(-6,-4) M3(-5,-4) M4(-4,-4) M5(-3,-4) M6(-2,-4) M7(-1,-4) M8(0,-4) M9(1,-4) M10(2,-4) M11(3,-4) M12(4,-4) M13(5,-4) M14(6,-4) M15(7,-4) N1(-7,-5) N2(-6,-5) N3(-5,-5) N4(-4,-5) N5(-3,-5) N6(-2,-5) N7(-1,-5) N8(0,-5) N9(1,-5) N10(2,-5) N11(3,-5) N12(4,-5) N13(5,-5) N14(6,-5) N15(7,-5) P1(-7,-6) P2(-6,-6) P3(-5,-6) P4(-4,-6) P5(-3,-6) P6(-2,-6) P7(-1,-6) P8(0,-6) P9(1,-6) P10(2,-6) P11(3,-6) P12(4,-6) P13(5,-6) P14(6,-6) P15(7,-6) R1(-7,-7) R2(-6,-7) R3(-5,-7) R4(-4,-7) R5(-3,-7) R6(-2,-7) R7(-1,-7) R8(0,-7) R9(1,-7) R10(2,-7) R11(3,-7) R12(4,-7) R13(5,-7) R14(6,-7) R15(7,-7)
Top Overlay:
  circle w0.25: c-9.155,7 r0.125
  lines w0.2: -8.5,-7.5 -7.5,-8.5 7.5,-8.5 8.5,-7.5 8.5,7.5 7.5,8.5 -8.5,8.5 -8.5,-7.5

## BGA17x17-B256 [mm] "BGA (Ceramic Chip Carrier Land Grid Substrate); 256 Balls; Body 17 x 17 mm; Pitch 1 mm"
height 1.87
pads (256):
  round 0.5 smd: A1(-7.5,7.5) A2(-6.5,7.5) A3(-5.5,7.5) A4(-4.5,7.5) A5(-3.5,7.5) A6(-2.5,7.5) A7(-1.5,7.5) A8(-0.5,7.5) A9(0.5,7.5) A10(1.5,7.5) A11(2.5,7.5) A12(3.5,7.5) A13(4.5,7.5) A14(5.5,7.5) A15(6.5,7.5) A16(7.5,7.5) B1(-7.5,6.5) B2(-6.5,6.5) B3(-5.5,6.5) B4(-4.5,6.5) B5(-3.5,6.5) B6(-2.5,6.5) B7(-1.5,6.5) B8(-0.5,6.5) B9(0.5,6.5) B10(1.5,6.5) B11(2.5,6.5) B12(3.5,6.5) B13(4.5,6.5) B14(5.5,6.5) B15(6.5,6.5) B16(7.5,6.5) C1(-7.5,5.5) C2(-6.5,5.5) C3(-5.5,5.5) C4(-4.5,5.5) C5(-3.5,5.5) C6(-2.5,5.5) C7(-1.5,5.5) C8(-0.5,5.5) C9(0.5,5.5) C10(1.5,5.5) C11(2.5,5.5) C12(3.5,5.5) C13(4.5,5.5) C14(5.5,5.5) C15(6.5,5.5) C16(7.5,5.5) D1(-7.5,4.5) D2(-6.5,4.5) D3(-5.5,4.5) D4(-4.5,4.5) D5(-3.5,4.5) D6(-2.5,4.5) D7(-1.5,4.5) D8(-0.5,4.5) D9(0.5,4.5) D10(1.5,4.5) D11(2.5,4.5) D12(3.5,4.5) D13(4.5,4.5) D14(5.5,4.5) D15(6.5,4.5) D16(7.5,4.5) E1(-7.5,3.5) E2(-6.5,3.5) E3(-5.5,3.5) E4(-4.5,3.5) E5(-3.5,3.5) E6(-2.5,3.5) E7(-1.5,3.5) E8(-0.5,3.5) E9(0.5,3.5) E10(1.5,3.5) E11(2.5,3.5) E12(3.5,3.5) E13(4.5,3.5) E14(5.5,3.5) E15(6.5,3.5) E16(7.5,3.5) F1(-7.5,2.5) F2(-6.5,2.5) F3(-5.5,2.5) F4(-4.5,2.5) F5(-3.5,2.5) F6(-2.5,2.5) F7(-1.5,2.5) F8(-0.5,2.5) F9(0.5,2.5) F10(1.5,2.5) F11(2.5,2.5) F12(3.5,2.5) F13(4.5,2.5) F14(5.5,2.5) F15(6.5,2.5) F16(7.5,2.5) G1(-7.5,1.5) G2(-6.5,1.5) G3(-5.5,1.5) G4(-4.5,1.5) G5(-3.5,1.5) G6(-2.5,1.5) G7(-1.5,1.5) G8(-0.5,1.5) G9(0.5,1.5) G10(1.5,1.5) G11(2.5,1.5) G12(3.5,1.5) G13(4.5,1.5) G14(5.5,1.5) G15(6.5,1.5) G16(7.5,1.5) H1(-7.5,0.5) H2(-6.5,0.5) H3(-5.5,0.5) H4(-4.5,0.5) H5(-3.5,0.5) H6(-2.5,0.5) H7(-1.5,0.5) H8(-0.5,0.5) H9(0.5,0.5) H10(1.5,0.5) H11(2.5,0.5) H12(3.5,0.5) H13(4.5,0.5) H14(5.5,0.5) H15(6.5,0.5) H16(7.5,0.5) J1(-7.5,-0.5) J2(-6.5,-0.5) J3(-5.5,-0.5) J4(-4.5,-0.5) J5(-3.5,-0.5) J6(-2.5,-0.5) J7(-1.5,-0.5) J8(-0.5,-0.5) J9(0.5,-0.5) J10(1.5,-0.5) J11(2.5,-0.5) J12(3.5,-0.5) J13(4.5,-0.5) J14(5.5,-0.5) J15(6.5,-0.5) J16(7.5,-0.5) K1(-7.5,-1.5) K2(-6.5,-1.5) K3(-5.5,-1.5) K4(-4.5,-1.5) K5(-3.5,-1.5) K6(-2.5,-1.5) K7(-1.5,-1.5) K8(-0.5,-1.5) K9(0.5,-1.5) K10(1.5,-1.5) K11(2.5,-1.5) K12(3.5,-1.5) K13(4.5,-1.5) K14(5.5,-1.5) K15(6.5,-1.5) K16(7.5,-1.5) L1(-7.5,-2.5) L2(-6.5,-2.5) L3(-5.5,-2.5) L4(-4.5,-2.5) L5(-3.5,-2.5) L6(-2.5,-2.5) L7(-1.5,-2.5) L8(-0.5,-2.5) L9(0.5,-2.5) L10(1.5,-2.5) L11(2.5,-2.5) L12(3.5,-2.5) L13(4.5,-2.5) L14(5.5,-2.5) L15(6.5,-2.5) L16(7.5,-2.5) M1(-7.5,-3.5) M2(-6.5,-3.5) M3(-5.5,-3.5) M4(-4.5,-3.5) M5(-3.5,-3.5) M6(-2.5,-3.5) M7(-1.5,-3.5) M8(-0.5,-3.5) M9(0.5,-3.5) M10(1.5,-3.5) M11(2.5,-3.5) M12(3.5,-3.5) M13(4.5,-3.5) M14(5.5,-3.5) M15(6.5,-3.5) M16(7.5,-3.5) N1(-7.5,-4.5) N2(-6.5,-4.5) N3(-5.5,-4.5) N4(-4.5,-4.5) N5(-3.5,-4.5) N6(-2.5,-4.5) N7(-1.5,-4.5) N8(-0.5,-4.5) N9(0.5,-4.5) N10(1.5,-4.5) N11(2.5,-4.5) N12(3.5,-4.5) N13(4.5,-4.5) N14(5.5,-4.5) N15(6.5,-4.5) N16(7.5,-4.5) P1(-7.5,-5.5) P2(-6.5,-5.5) P3(-5.5,-5.5) P4(-4.5,-5.5) P5(-3.5,-5.5) P6(-2.5,-5.5) P7(-1.5,-5.5) P8(-0.5,-5.5) P9(0.5,-5.5) P10(1.5,-5.5) P11(2.5,-5.5) P12(3.5,-5.5) P13(4.5,-5.5) P14(5.5,-5.5) P15(6.5,-5.5) P16(7.5,-5.5) R1(-7.5,-6.5) R2(-6.5,-6.5) R3(-5.5,-6.5) R4(-4.5,-6.5) R5(-3.5,-6.5) R6(-2.5,-6.5) R7(-1.5,-6.5) R8(-0.5,-6.5) R9(0.5,-6.5) R10(1.5,-6.5) R11(2.5,-6.5) R12(3.5,-6.5) R13(4.5,-6.5) R14(5.5,-6.5) R15(6.5,-6.5) R16(7.5,-6.5) T1(-7.5,-7.5) T2(-6.5,-7.5) T3(-5.5,-7.5) T4(-4.5,-7.5) T5(-3.5,-7.5) T6(-2.5,-7.5) T7(-1.5,-7.5) T8(-0.5,-7.5) T9(0.5,-7.5) T10(1.5,-7.5) T11(2.5,-7.5) T12(3.5,-7.5) T13(4.5,-7.5) T14(5.5,-7.5) T15(6.5,-7.5) T16(7.5,-7.5)
Top Overlay:
  circle w0.25: c-9.15,7.5 r0.125
  lines w0.2: -8.5,-7.5 -7.5,-8.5 7.5,-8.5 8.5,-7.5 8.5,7.5 7.5,8.5 -8.5,8.5 -8.5,-7.5

## BGA17x17-B256/X.4 [mm] "BGA, Fine Pitch; 256 Balls; Body 17 x 17 mm; Pitch 1 mm"
height 1.6
pads (256):
  round 0.4 smd: A1(-7.5,7.5) A2(-6.5,7.5) A3(-5.5,7.5) A4(-4.5,7.5) A5(-3.5,7.5) A6(-2.5,7.5) A7(-1.5,7.5) A8(-0.5,7.5) A9(0.5,7.5) A10(1.5,7.5) A11(2.5,7.5) A12(3.5,7.5) A13(4.5,7.5) A14(5.5,7.5) A15(6.5,7.5) A16(7.5,7.5) B1(-7.5,6.5) B2(-6.5,6.5) B3(-5.5,6.5) B4(-4.5,6.5) B5(-3.5,6.5) B6(-2.5,6.5) B7(-1.5,6.5) B8(-0.5,6.5) B9(0.5,6.5) B10(1.5,6.5) B11(2.5,6.5) B12(3.5,6.5) B13(4.5,6.5) B14(5.5,6.5) B15(6.5,6.5) B16(7.5,6.5) C1(-7.5,5.5) C2(-6.5,5.5) C3(-5.5,5.5) C4(-4.5,5.5) C5(-3.5,5.5) C6(-2.5,5.5) C7(-1.5,5.5) C8(-0.5,5.5) C9(0.5,5.5) C10(1.5,5.5) C11(2.5,5.5) C12(3.5,5.5) C13(4.5,5.5) C14(5.5,5.5) C15(6.5,5.5) C16(7.5,5.5) D1(-7.5,4.5) D2(-6.5,4.5) D3(-5.5,4.5) D4(-4.5,4.5) D5(-3.5,4.5) D6(-2.5,4.5) D7(-1.5,4.5) D8(-0.5,4.5) D9(0.5,4.5) D10(1.5,4.5) D11(2.5,4.5) D12(3.5,4.5) D13(4.5,4.5) D14(5.5,4.5) D15(6.5,4.5) D16(7.5,4.5) E1(-7.5,3.5) E2(-6.5,3.5) E3(-5.5,3.5) E4(-4.5,3.5) E5(-3.5,3.5) E6(-2.5,3.5) E7(-1.5,3.5) E8(-0.5,3.5) E9(0.5,3.5) E10(1.5,3.5) E11(2.5,3.5) E12(3.5,3.5) E13(4.5,3.5) E14(5.5,3.5) E15(6.5,3.5) E16(7.5,3.5) F1(-7.5,2.5) F2(-6.5,2.5) F3(-5.5,2.5) F4(-4.5,2.5) F5(-3.5,2.5) F6(-2.5,2.5) F7(-1.5,2.5) F8(-0.5,2.5) F9(0.5,2.5) F10(1.5,2.5) F11(2.5,2.5) F12(3.5,2.5) F13(4.5,2.5) F14(5.5,2.5) F15(6.5,2.5) F16(7.5,2.5) G1(-7.5,1.5) G2(-6.5,1.5) G3(-5.5,1.5) G4(-4.5,1.5) G5(-3.5,1.5) G6(-2.5,1.5) G7(-1.5,1.5) G8(-0.5,1.5) G9(0.5,1.5) G10(1.5,1.5) G11(2.5,1.5) G12(3.5,1.5) G13(4.5,1.5) G14(5.5,1.5) G15(6.5,1.5) G16(7.5,1.5) H1(-7.5,0.5) H2(-6.5,0.5) H3(-5.5,0.5) H4(-4.5,0.5) H5(-3.5,0.5) H6(-2.5,0.5) H7(-1.5,0.5) H8(-0.5,0.5) H9(0.5,0.5) H10(1.5,0.5) H11(2.5,0.5) H12(3.5,0.5) H13(4.5,0.5) H14(5.5,0.5) H15(6.5,0.5) H16(7.5,0.5) J1(-7.5,-0.5) J2(-6.5,-0.5) J3(-5.5,-0.5) J4(-4.5,-0.5) J5(-3.5,-0.5) J6(-2.5,-0.5) J7(-1.5,-0.5) J8(-0.5,-0.5) J9(0.5,-0.5) J10(1.5,-0.5) J11(2.5,-0.5) J12(3.5,-0.5) J13(4.5,-0.5) J14(5.5,-0.5) J15(6.5,-0.5) J16(7.5,-0.5) K1(-7.5,-1.5) K2(-6.5,-1.5) K3(-5.5,-1.5) K4(-4.5,-1.5) K5(-3.5,-1.5) K6(-2.5,-1.5) K7(-1.5,-1.5) K8(-0.5,-1.5) K9(0.5,-1.5) K10(1.5,-1.5) K11(2.5,-1.5) K12(3.5,-1.5) K13(4.5,-1.5) K14(5.5,-1.5) K15(6.5,-1.5) K16(7.5,-1.5) L1(-7.5,-2.5) L2(-6.5,-2.5) L3(-5.5,-2.5) L4(-4.5,-2.5) L5(-3.5,-2.5) L6(-2.5,-2.5) L7(-1.5,-2.5) L8(-0.5,-2.5) L9(0.5,-2.5) L10(1.5,-2.5) L11(2.5,-2.5) L12(3.5,-2.5) L13(4.5,-2.5) L14(5.5,-2.5) L15(6.5,-2.5) L16(7.5,-2.5) M1(-7.5,-3.5) M2(-6.5,-3.5) M3(-5.5,-3.5) M4(-4.5,-3.5) M5(-3.5,-3.5) M6(-2.5,-3.5) M7(-1.5,-3.5) M8(-0.5,-3.5) M9(0.5,-3.5) M10(1.5,-3.5) M11(2.5,-3.5) M12(3.5,-3.5) M13(4.5,-3.5) M14(5.5,-3.5) M15(6.5,-3.5) M16(7.5,-3.5) N1(-7.5,-4.5) N2(-6.5,-4.5) N3(-5.5,-4.5) N4(-4.5,-4.5) N5(-3.5,-4.5) N6(-2.5,-4.5) N7(-1.5,-4.5) N8(-0.5,-4.5) N9(0.5,-4.5) N10(1.5,-4.5) N11(2.5,-4.5) N12(3.5,-4.5) N13(4.5,-4.5) N14(5.5,-4.5) N15(6.5,-4.5) N16(7.5,-4.5) P1(-7.5,-5.5) P2(-6.5,-5.5) P3(-5.5,-5.5) P4(-4.5,-5.5) P5(-3.5,-5.5) P6(-2.5,-5.5) P7(-1.5,-5.5) P8(-0.5,-5.5) P9(0.5,-5.5) P10(1.5,-5.5) P11(2.5,-5.5) P12(3.5,-5.5) P13(4.5,-5.5) P14(5.5,-5.5) P15(6.5,-5.5) P16(7.5,-5.5) R1(-7.5,-6.5) R2(-6.5,-6.5) R3(-5.5,-6.5) R4(-4.5,-6.5) R5(-3.5,-6.5) R6(-2.5,-6.5) R7(-1.5,-6.5) R8(-0.5,-6.5) R9(0.5,-6.5) R10(1.5,-6.5) R11(2.5,-6.5) R12(3.5,-6.5) R13(4.5,-6.5) R14(5.5,-6.5) R15(6.5,-6.5) R16(7.5,-6.5) T1(-7.5,-7.5) T2(-6.5,-7.5) T3(-5.5,-7.5) T4(-4.5,-7.5) T5(-3.5,-7.5) T6(-2.5,-7.5) T7(-1.5,-7.5) T8(-0.5,-7.5) T9(0.5,-7.5) T10(1.5,-7.5) T11(2.5,-7.5) T12(3.5,-7.5) T13(4.5,-7.5) T14(5.5,-7.5) T15(6.5,-7.5) T16(7.5,-7.5)
Top Overlay:
  circle w0.25: c-9.15,7.5 r0.125
  lines w0.2: -8.5,-7.5 -7.5,-8.5 7.5,-8.5 8.5,-7.5 8.5,7.5 7.5,8.5 -8.5,8.5 -8.5,-7.5

## BGA17x17-B256/X.45 [mm] "256-Pin Fine-Pitch Plastic Ball Grid Array (FG)"
height 1.97
pads (256):
  round 0.45 smd: A1(-7.5,7.5) A2(-6.5,7.5) A3(-5.5,7.5) A4(-4.5,7.5) A5(-3.5,7.5) A6(-2.5,7.5) A7(-1.5,7.5) A8(-0.5,7.5) A9(0.5,7.5) A10(1.5,7.5) A11(2.5,7.5) A12(3.5,7.5) A13(4.5,7.5) A14(5.5,7.5) A15(6.5,7.5) A16(7.5,7.5) B1(-7.5,6.5) B2(-6.5,6.5) B3(-5.5,6.5) B4(-4.5,6.5) B5(-3.5,6.5) B6(-2.5,6.5) B7(-1.5,6.5) B8(-0.5,6.5) B9(0.5,6.5) B10(1.5,6.5) B11(2.5,6.5) B12(3.5,6.5) B13(4.5,6.5) B14(5.5,6.5) B15(6.5,6.5) B16(7.5,6.5) C1(-7.5,5.5) C2(-6.5,5.5) C3(-5.5,5.5) C4(-4.5,5.5) C5(-3.5,5.5) C6(-2.5,5.5) C7(-1.5,5.5) C8(-0.5,5.5) C9(0.5,5.5) C10(1.5,5.5) C11(2.5,5.5) C12(3.5,5.5) C13(4.5,5.5) C14(5.5,5.5) C15(6.5,5.5) C16(7.5,5.5) D1(-7.5,4.5) D2(-6.5,4.5) D3(-5.5,4.5) D4(-4.5,4.5) D5(-3.5,4.5) D6(-2.5,4.5) D7(-1.5,4.5) D8(-0.5,4.5) D9(0.5,4.5) D10(1.5,4.5) D11(2.5,4.5) D12(3.5,4.5) D13(4.5,4.5) D14(5.5,4.5) D15(6.5,4.5) D16(7.5,4.5) E1(-7.5,3.5) E2(-6.5,3.5) E3(-5.5,3.5) E4(-4.5,3.5) E5(-3.5,3.5) E6(-2.5,3.5) E7(-1.5,3.5) E8(-0.5,3.5) E9(0.5,3.5) E10(1.5,3.5) E11(2.5,3.5) E12(3.5,3.5) E13(4.5,3.5) E14(5.5,3.5) E15(6.5,3.5) E16(7.5,3.5) F1(-7.5,2.5) F2(-6.5,2.5) F3(-5.5,2.5) F4(-4.5,2.5) F5(-3.5,2.5) F6(-2.5,2.5) F7(-1.5,2.5) F8(-0.5,2.5) F9(0.5,2.5) F10(1.5,2.5) F11(2.5,2.5) F12(3.5,2.5) F13(4.5,2.5) F14(5.5,2.5) F15(6.5,2.5) F16(7.5,2.5) G1(-7.5,1.5) G2(-6.5,1.5) G3(-5.5,1.5) G4(-4.5,1.5) G5(-3.5,1.5) G6(-2.5,1.5) G7(-1.5,1.5) G8(-0.5,1.5) G9(0.5,1.5) G10(1.5,1.5) G11(2.5,1.5) G12(3.5,1.5) G13(4.5,1.5) G14(5.5,1.5) G15(6.5,1.5) G16(7.5,1.5) H1(-7.5,0.5) H2(-6.5,0.5) H3(-5.5,0.5) H4(-4.5,0.5) H5(-3.5,0.5) H6(-2.5,0.5) H7(-1.5,0.5) H8(-0.5,0.5) H9(0.5,0.5) H10(1.5,0.5) H11(2.5,0.5) H12(3.5,0.5) H13(4.5,0.5) H14(5.5,0.5) H15(6.5,0.5) H16(7.5,0.5) J1(-7.5,-0.5) J2(-6.5,-0.5) J3(-5.5,-0.5) J4(-4.5,-0.5) J5(-3.5,-0.5) J6(-2.5,-0.5) J7(-1.5,-0.5) J8(-0.5,-0.5) J9(0.5,-0.5) J10(1.5,-0.5) J11(2.5,-0.5) J12(3.5,-0.5) J13(4.5,-0.5) J14(5.5,-0.5) J15(6.5,-0.5) J16(7.5,-0.5) K1(-7.5,-1.5) K2(-6.5,-1.5) K3(-5.5,-1.5) K4(-4.5,-1.5) K5(-3.5,-1.5) K6(-2.5,-1.5) K7(-1.5,-1.5) K8(-0.5,-1.5) K9(0.5,-1.5) K10(1.5,-1.5) K11(2.5,-1.5) K12(3.5,-1.5) K13(4.5,-1.5) K14(5.5,-1.5) K15(6.5,-1.5) K16(7.5,-1.5) L1(-7.5,-2.5) L2(-6.5,-2.5) L3(-5.5,-2.5) L4(-4.5,-2.5) L5(-3.5,-2.5) L6(-2.5,-2.5) L7(-1.5,-2.5) L8(-0.5,-2.5) L9(0.5,-2.5) L10(1.5,-2.5) L11(2.5,-2.5) L12(3.5,-2.5) L13(4.5,-2.5) L14(5.5,-2.5) L15(6.5,-2.5) L16(7.5,-2.5) M1(-7.5,-3.5) M2(-6.5,-3.5) M3(-5.5,-3.5) M4(-4.5,-3.5) M5(-3.5,-3.5) M6(-2.5,-3.5) M7(-1.5,-3.5) M8(-0.5,-3.5) M9(0.5,-3.5) M10(1.5,-3.5) M11(2.5,-3.5) M12(3.5,-3.5) M13(4.5,-3.5) M14(5.5,-3.5) M15(6.5,-3.5) M16(7.5,-3.5) N1(-7.5,-4.5) N2(-6.5,-4.5) N3(-5.5,-4.5) N4(-4.5,-4.5) N5(-3.5,-4.5) N6(-2.5,-4.5) N7(-1.5,-4.5) N8(-0.5,-4.5) N9(0.5,-4.5) N10(1.5,-4.5) N11(2.5,-4.5) N12(3.5,-4.5) N13(4.5,-4.5) N14(5.5,-4.5) N15(6.5,-4.5) N16(7.5,-4.5) P1(-7.5,-5.5) P2(-6.5,-5.5) P3(-5.5,-5.5) P4(-4.5,-5.5) P5(-3.5,-5.5) P6(-2.5,-5.5) P7(-1.5,-5.5) P8(-0.5,-5.5) P9(0.5,-5.5) P10(1.5,-5.5) P11(2.5,-5.5) P12(3.5,-5.5) P13(4.5,-5.5) P14(5.5,-5.5) P15(6.5,-5.5) P16(7.5,-5.5) R1(-7.5,-6.5) R2(-6.5,-6.5) R3(-5.5,-6.5) R4(-4.5,-6.5) R5(-3.5,-6.5) R6(-2.5,-6.5) R7(-1.5,-6.5) R8(-0.5,-6.5) R9(0.5,-6.5) R10(1.5,-6.5) R11(2.5,-6.5) R12(3.5,-6.5) R13(4.5,-6.5) R14(5.5,-6.5) R15(6.5,-6.5) R16(7.5,-6.5) T1(-7.5,-7.5) T2(-6.5,-7.5) T3(-5.5,-7.5) T4(-4.5,-7.5) T5(-3.5,-7.5) T6(-2.5,-7.5) T7(-1.5,-7.5) T8(-0.5,-7.5) T9(0.5,-7.5) T10(1.5,-7.5) T11(2.5,-7.5) T12(3.5,-7.5) T13(4.5,-7.5) T14(5.5,-7.5) T15(6.5,-7.5) T16(7.5,-7.5)
Top Overlay:
  circle w0.25: c-9.15,7.5 r0.125
  lines w0.2: -8.5,-7.384 -8.5,8.5 7.384,8.5 8.5,7.384 8.5,-7.384 7.384,-8.5 -7.384,-8.5 -8.5,-7.384